# Altium schematic symbol library RT6255BHGJ6F.SchLib: 1 symbol
Pins are listed as number, name and electrical type; pins without a type are passive.

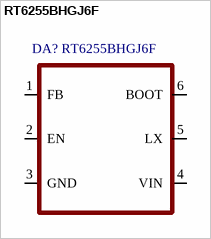
[diagram p0: symbol RT6255BHGJ6F]

## RT6255BHGJ6F
designator DA?  (value not drawn)
pins: 1 FB, 2 EN, 3 GND, 4 VIN, 5 LX, 6 BOOT